# Altium footprint library Hall_Sensor.PcbLib: 2 footprints
Each footprint in its own frame and in the unit in brackets; x right, y up, seen from the top. Pads: shape width x height; smd on the part's side, far side on the other; paste and mask are expansions set on the pad; w line width, h text height; cw(c..) or ccw(c..) is an arc to the next point about the centre after c.
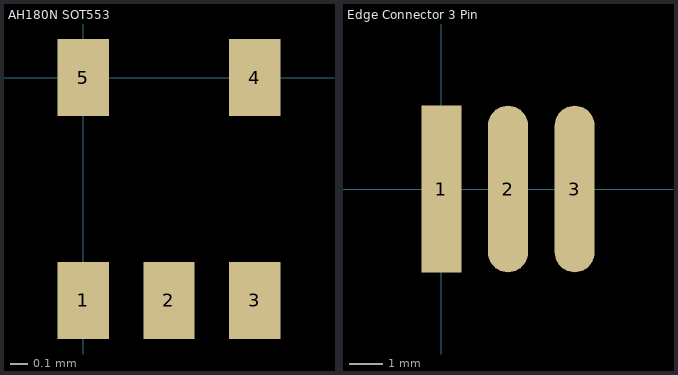
[diagram p0: the footprints below, top view; thin cyan lines are the x and y axes]

## AH180N SOT553 [mm] "AH180N SOT553"
pads (5):
  rect 0.3x0.45 smd: 1(0,-1.3) 2(0.5,-1.3) 3(1,-1.3) 4(1,0) 5(0,0)

## Edge Connector 3 Pin [mm]
pads (3):
  rect 1.2x5 smd: 1(0,0)
  oval 1.2x5 smd: 2(2,0) 3(4,0)